# Altium footprint library cherrymx.PCBLIB: 3 footprints
Each footprint in its own frame and in the unit in brackets; x right, y up, seen from the top. Pads: shape width x height; smd on the part's side, far side on the other; paste and mask are expansions set on the pad; w line width, h text height; cw(c..) or ccw(c..) is an arc to the next point about the centre after c.
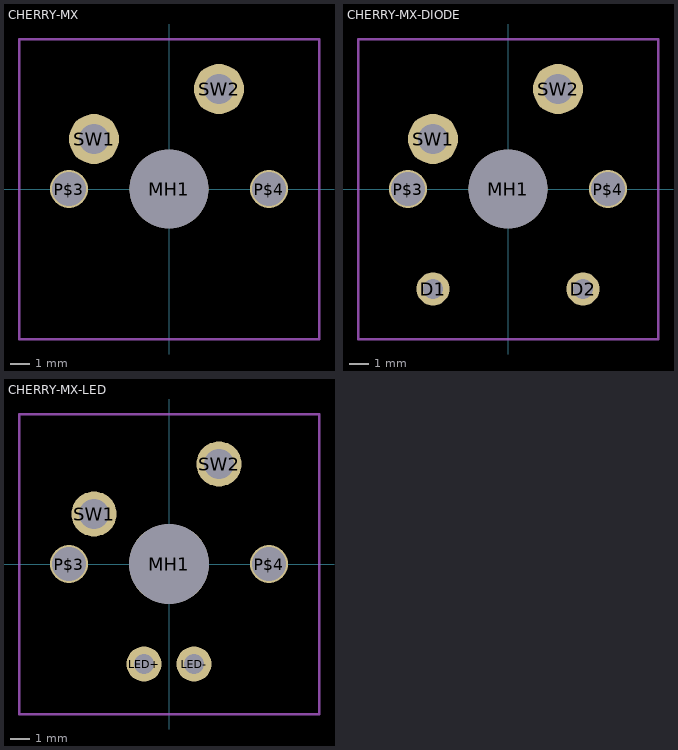
[diagram p0: the footprints below, top view; thin cyan lines are the x and y axes]

## CHERRY-MX [mil]
pads (5):
  round 157.5 hole 157.5 unplated: MH1(0,0)
  round 76 hole 67.5: P$3(-200,0) P$4(200,0)
  round 100 hole 59.06: SW1(-150,100) SW2(100,200)
Mechanical 7:
  lines w5: -300,-300 300,-300 300,300 -300,300 -300,-300

## CHERRY-MX-DIODE [mil]
pads (7):
  round 66 hole 40: D1(-150,-200) D2(150,-200)
  round 157.5 hole 157.5 unplated: MH1(0,0)
  round 76 hole 67.5: P$3(-200,0) P$4(200,0)
  round 100 hole 59.06: SW1(-150,100) SW2(100,200)
Mechanical 7:
  lines w5: -300,-300 300,-300 300,300 -300,300 -300,-300

## CHERRY-MX-LED [mil]
pads (7):
  round 70 hole 40: LED+(-50,-200) LED-(50,-200)
  round 160 hole 160 unplated: MH1(0,0)
  round 76 hole 67.5: P$3(-200,0) P$4(200,0)
  round 90 hole 60: SW1(-150,100) SW2(100,200)
Mechanical 7:
  lines w5: -300,-300 300,-300 300,300 -300,300 -300,-300